# Altium schematic symbol library AOZ1360AIL.SchLib: 1 symbol
Pins are listed as number, name and electrical type; pins without a type are passive.

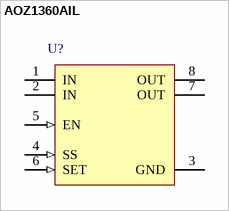
[diagram p0: symbol AOZ1360AIL]

## AOZ1360AIL
designator U?
pins: 1 IN (power), 2 IN (power), 3 GND (power), 4 SS (in), 5 EN (in), 6 SET (in), 7 OUT (power), 8 OUT (power)